# Altium integrated library Renesas Microprocessor SuperH.IntLib: 433 symbols (part 62 of 62)
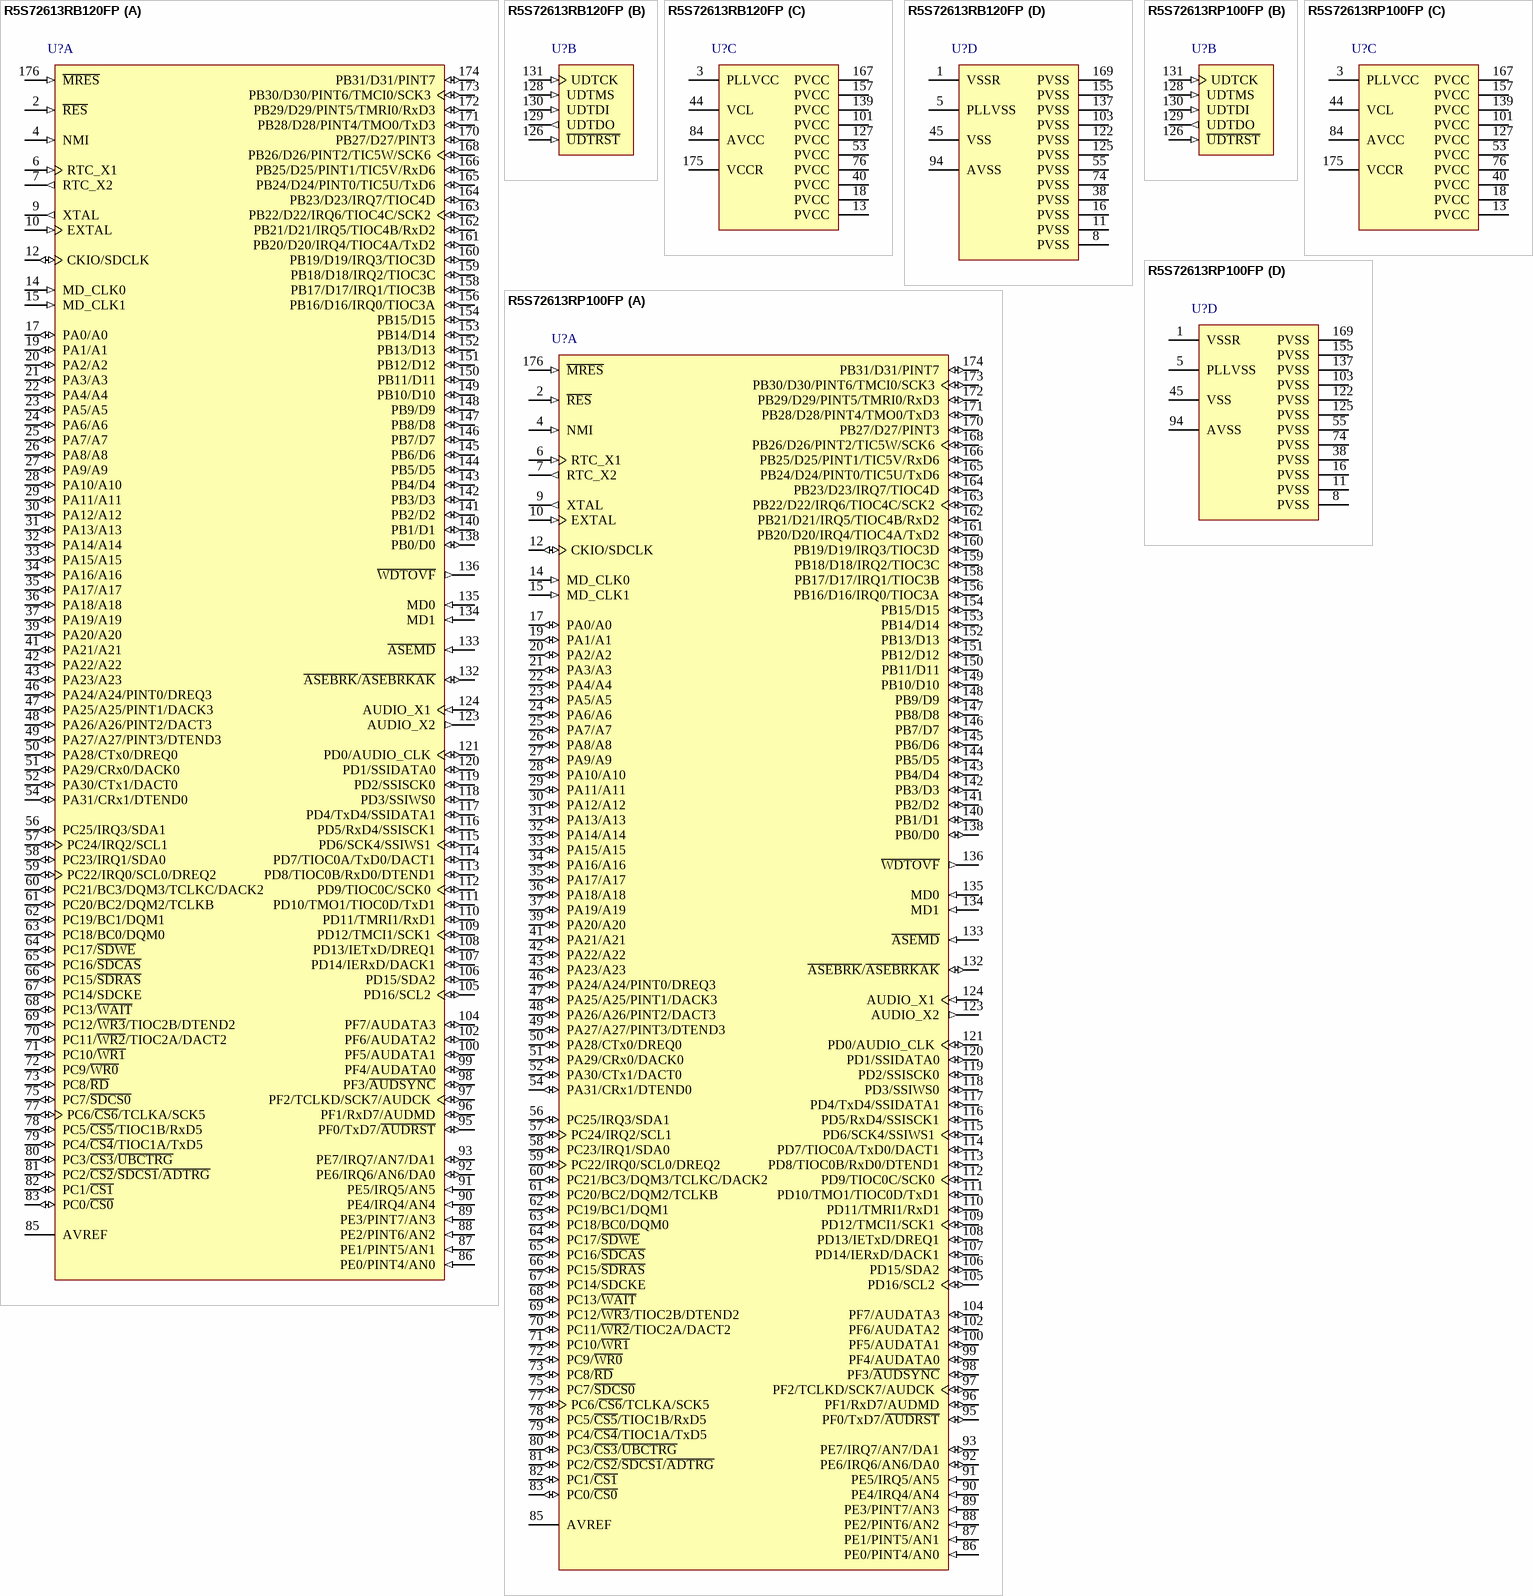
[diagram p416: symbols R5S72613RB120FP to R5S72613RP100FP]

## R5S72613RB120FP
designator U?
32-Bit RISC Microcomputer, SH7260 Series, SH-2A core, 120MHz, 32K RAM, 24x24mm 176-pin PLQFP, -40 to 85°C; Published: 28-Aug-2009; DatasheetVersion: Rev.2.00, Sep-2007; PackageVersion: Oct-2005; PackageReference: PLQP0176KB-A; Publisher: Altium Limited; PackageDescription: 176-Pin Plastic Low Profile QFP, 24 x 24 x 1.4 mm Body, 0.5 mm Pitch; Code_JEITA: P-LQFP176-24x24-0.50; ComponentLink1Description: Manufacturer Link; ComponentLink1URL: http://www.renesas.com/fmwk.jsp?cnt=sh7261_root.jsp&fp=/products/mpumcu/superh_family/sh7260_series/sh7261_group/; ComponentLink2Description: Datasheet; ComponentLink2URL: http://documentation.renesas.com/eng/products/mpumcu/rej09b0320_sh7261hm.pdf; ComponentLink3Description: Packaging Specification; ComponentLink3URL: http://sg.renesas.com/media/products/common_info/package/pdf/ic/code/plqp0176kb_a.pdf
footprint PLQP0176KB-A_N (Shrink QFP, 176-Leads, Body 24x24mm, Pitch 0.5mm, IPC Medium Density)
footprint PLQP0176KB-A_L (Shrink QFP, 176-Leads, Body 24x24mm, Pitch 0.5mm, IPC High Density)
footprint PLQP0176KB-A_M (Shrink QFP, 176-Leads, Body 24x24mm, Pitch 0.5mm, IPC Low Density)
part A pins: 2 ~{RES} (in), 4 NMI (in), 6 RTC_X1 (in), 7 RTC_X2 (out), 9 XTAL (out), 10 EXTAL (in), 12 CKIO/SDCLK (io), 14 MD_CLK0 (in), 15 MD_CLK1 (in), 17 PA0/A0 (io), 19 PA1/A1 (io), 20 PA2/A2 (io), 21 PA3/A3 (io), 22 PA4/A4 (io), 23 PA5/A5 (io), 24 PA6/A6 (io), 25 PA7/A7 (io), 26 PA8/A8 (io), 27 PA9/A9 (io), 28 PA10/A10 (io), 29 PA11/A11 (io), 30 PA12/A12 (io), 31 PA13/A13 (io), 32 PA14/A14 (io), 33 PA15/A15 (io), 34 PA16/A16 (io), 35 PA17/A17 (io), 36 PA18/A18 (io), 37 PA19/A19 (io), 39 PA20/A20 (io), 41 PA21/A21 (io), 42 PA22/A22 (io), 43 PA23/A23 (io), 46 PA24/A24/PINT0/DREQ3 (io), 47 PA25/A25/PINT1/DACK3 (io), 48 PA26/A26/PINT2/DACT3 (io), 49 PA27/A27/PINT3/DTEND3 (io), 50 PA28/CTx0/DREQ0 (io), 51 PA29/CRx0/DACK0 (io), 52 PA30/CTx1/DACT0 (io), 54 PA31/CRx1/DTEND0 (io), 56 PC25/IRQ3/SDA1 (io), 57 PC24/IRQ2/SCL1 (io), 58 PC23/IRQ1/SDA0 (io), 59 PC22/IRQ0/SCL0/DREQ2 (io), 60 PC21/BC3/DQM3/TCLKC/DACK2 (io), 61 PC20/BC2/DQM2/TCLKB (io), 62 PC19/BC1/DQM1 (io), 63 PC18/BC0/DQM0 (io), 64 PC17/~{SDWE} (io), 65 PC16/~{SDCAS} (io), 66 PC15/~{SDRAS} (io), 67 PC14/SDCKE (io), 68 PC13/~{WAIT} (io), 69 PC12/~{WR3}/TIOC2B/DTEND2 (io), 70 PC11/~{WR2}/TIOC2A/DACT2 (io), 71 PC10/~{WR1} (io), 72 PC9/~{WR0} (io), 73 PC8/~{RD} (io), 75 PC7/~{SDCS0} (io), 77 PC6/~{CS6}/TCLKA/SCK5 (io), 78 PC5/~{CS5}/TIOC1B/RxD5 (io), 79 PC4/~{CS4}/TIOC1A/TxD5 (io), 80 PC3/~{CS3}/~{UBCTRG} (io), 81 PC2/~{CS2}/~{SDCS1}/~{ADTRG} (io), 82 PC1/~{CS1} (io), 83 PC0/~{CS0} (io), 85 AVREF (power), 86 PE0/PINT4/AN0 (in), 87 PE1/PINT5/AN1 (in), 88 PE2/PINT6/AN2 (in), 89 PE3/PINT7/AN3 (in), 90 PE4/IRQ4/AN4 (in), 91 PE5/IRQ5/AN5 (in), 92 PE6/IRQ6/AN6/DA0 (io), 93 PE7/IRQ7/AN7/DA1 (io), 95 PF0/TxD7/~{AUDRST} (io), 96 PF1/RxD7/AUDMD (io), 97 PF2/TCLKD/SCK7/AUDCK (io), 98 PF3/~{AUDSYNC} (io), 99 PF4/AUDATA0 (io), 100 PF5/AUDATA1 (io), 102 PF6/AUDATA2 (io), 104 PF7/AUDATA3 (io), 105 PD16/SCL2 (io), 106 PD15/SDA2 (io), 107 PD14/IERxD/DACK1 (io), 108 PD13/IETxD/DREQ1 (io), 109 PD12/TMCI1/SCK1 (io), 110 PD11/TMRI1/RxD1 (io), 111 PD10/TMO1/TIOC0D/TxD1 (io), 112 PD9/TIOC0C/SCK0 (io), 113 PD8/TIOC0B/RxD0/DTEND1 (io), 114 PD7/TIOC0A/TxD0/DACT1 (io), 115 PD6/SCK4/SSIWS1 (io), 116 PD5/RxD4/SSISCK1 (io), 117 PD4/TxD4/SSIDATA1 (io), 118 PD3/SSIWS0 (io), 119 PD2/SSISCK0 (io), 120 PD1/SSIDATA0 (io), 121 PD0/AUDIO_CLK (io), 123 AUDIO_X2 (out), 124 AUDIO_X1 (in), 132 ~{ASEBRK}/~{ASEBRKAK} (io), 133 ~{ASEMD} (in), 134 MD1 (in), 135 MD0 (in), 136 ~{WDTOVF} (out), 138 PB0/D0 (io), 140 PB1/D1 (io), 141 PB2/D2 (io), 142 PB3/D3 (io), 143 PB4/D4 (io), 144 PB5/D5 (io), 145 PB6/D6 (io), 146 PB7/D7 (io), 147 PB8/D8 (io), 148 PB9/D9 (io), 149 PB10/D10 (io), 150 PB11/D11 (io), 151 PB12/D12 (io), 152 PB13/D13 (io), 153 PB14/D14 (io), 154 PB15/D15 (io), 156 PB16/D16/IRQ0/TIOC3A (io), 158 PB17/D17/IRQ1/TIOC3B (io), 159 PB18/D18/IRQ2/TIOC3C (io), 160 PB19/D19/IRQ3/TIOC3D (io), 161 PB20/D20/IRQ4/TIOC4A/TxD2 (io), 162 PB21/D21/IRQ5/TIOC4B/RxD2 (io), 163 PB22/D22/IRQ6/TIOC4C/SCK2 (io), 164 PB23/D23/IRQ7/TIOC4D (io), 165 PB24/D24/PINT0/TIC5U/TxD6 (io), 166 PB25/D25/PINT1/TIC5V/RxD6 (io), 168 PB26/D26/PINT2/TIC5W/SCK6 (io), 170 PB27/D27/PINT3 (io), 171 PB28/D28/PINT4/TMO0/TxD3 (io), 172 PB29/D29/PINT5/TMRI0/RxD3 (io), 173 PB30/D30/PINT6/TMCI0/SCK3 (io), 174 PB31/D31/PINT7 (io), 176 ~{MRES} (in)
part B pins: 126 ~{UDTRST} (in), 128 UDTMS (in), 129 UDTDO (out), 130 UDTDI (in), 131 UDTCK (in)
part C pins: 3 PLLVCC (power), 13 PVCC (power), 18 PVCC (power), 40 PVCC (power), 44 VCL (power), 53 PVCC (power), 76 PVCC (power), 84 AVCC (power), 101 PVCC (power), 127 PVCC (power), 139 PVCC (power), 157 PVCC (power), 167 PVCC (power), 175 VCCR (power)
part D pins: 1 VSSR (power), 5 PLLVSS (power), 8 PVSS (power), 11 PVSS (power), 16 PVSS (power), 38 PVSS (power), 45 VSS (power), 55 PVSS (power), 74 PVSS (power), 94 AVSS (power), 103 PVSS (power), 122 PVSS (power), 125 PVSS (power), 137 PVSS (power), 155 PVSS (power), 169 PVSS (power)

## R5S72613RP100FP
designator U?
32-Bit RISC Microcomputer, SH7260 Series, SH-2A core, 100MHz, 32K RAM, 24x24mm 176-pin PLQFP, -40 to 85°C; Published: 28-Aug-2009; DatasheetVersion: Rev.2.00, Sep-2007; PackageVersion: Oct-2005; PackageReference: PLQP0176KB-A; Publisher: Altium Limited; PackageDescription: 176-Pin Plastic Low Profile QFP, 24 x 24 x 1.4 mm Body, 0.5 mm Pitch; Code_JEITA: P-LQFP176-24x24-0.50; ComponentLink1Description: Manufacturer Link; ComponentLink1URL: http://www.renesas.com/fmwk.jsp?cnt=sh7261_root.jsp&fp=/products/mpumcu/superh_family/sh7260_series/sh7261_group/; ComponentLink2Description: Datasheet; ComponentLink2URL: http://documentation.renesas.com/eng/products/mpumcu/rej09b0320_sh7261hm.pdf; ComponentLink3Description: Packaging Specification; ComponentLink3URL: http://sg.renesas.com/media/products/common_info/package/pdf/ic/code/plqp0176kb_a.pdf
footprint PLQP0176KB-A_N (Shrink QFP, 176-Leads, Body 24x24mm, Pitch 0.5mm, IPC Medium Density)
footprint PLQP0176KB-A_L (Shrink QFP, 176-Leads, Body 24x24mm, Pitch 0.5mm, IPC High Density)
footprint PLQP0176KB-A_M (Shrink QFP, 176-Leads, Body 24x24mm, Pitch 0.5mm, IPC Low Density)
part A pins: 2 ~{RES} (in), 4 NMI (in), 6 RTC_X1 (in), 7 RTC_X2 (out), 9 XTAL (out), 10 EXTAL (in), 12 CKIO/SDCLK (io), 14 MD_CLK0 (in), 15 MD_CLK1 (in), 17 PA0/A0 (io), 19 PA1/A1 (io), 20 PA2/A2 (io), 21 PA3/A3 (io), 22 PA4/A4 (io), 23 PA5/A5 (io), 24 PA6/A6 (io), 25 PA7/A7 (io), 26 PA8/A8 (io), 27 PA9/A9 (io), 28 PA10/A10 (io), 29 PA11/A11 (io), 30 PA12/A12 (io), 31 PA13/A13 (io), 32 PA14/A14 (io), 33 PA15/A15 (io), 34 PA16/A16 (io), 35 PA17/A17 (io), 36 PA18/A18 (io), 37 PA19/A19 (io), 39 PA20/A20 (io), 41 PA21/A21 (io), 42 PA22/A22 (io), 43 PA23/A23 (io), 46 PA24/A24/PINT0/DREQ3 (io), 47 PA25/A25/PINT1/DACK3 (io), 48 PA26/A26/PINT2/DACT3 (io), 49 PA27/A27/PINT3/DTEND3 (io), 50 PA28/CTx0/DREQ0 (io), 51 PA29/CRx0/DACK0 (io), 52 PA30/CTx1/DACT0 (io), 54 PA31/CRx1/DTEND0 (io), 56 PC25/IRQ3/SDA1 (io), 57 PC24/IRQ2/SCL1 (io), 58 PC23/IRQ1/SDA0 (io), 59 PC22/IRQ0/SCL0/DREQ2 (io), 60 PC21/BC3/DQM3/TCLKC/DACK2 (io), 61 PC20/BC2/DQM2/TCLKB (io), 62 PC19/BC1/DQM1 (io), 63 PC18/BC0/DQM0 (io), 64 PC17/~{SDWE} (io), 65 PC16/~{SDCAS} (io), 66 PC15/~{SDRAS} (io), 67 PC14/SDCKE (io), 68 PC13/~{WAIT} (io), 69 PC12/~{WR3}/TIOC2B/DTEND2 (io), 70 PC11/~{WR2}/TIOC2A/DACT2 (io), 71 PC10/~{WR1} (io), 72 PC9/~{WR0} (io), 73 PC8/~{RD} (io), 75 PC7/~{SDCS0} (io), 77 PC6/~{CS6}/TCLKA/SCK5 (io), 78 PC5/~{CS5}/TIOC1B/RxD5 (io), 79 PC4/~{CS4}/TIOC1A/TxD5 (io), 80 PC3/~{CS3}/~{UBCTRG} (io), 81 PC2/~{CS2}/~{SDCS1}/~{ADTRG} (io), 82 PC1/~{CS1} (io), 83 PC0/~{CS0} (io), 85 AVREF (power), 86 PE0/PINT4/AN0 (in), 87 PE1/PINT5/AN1 (in), 88 PE2/PINT6/AN2 (in), 89 PE3/PINT7/AN3 (in), 90 PE4/IRQ4/AN4 (in), 91 PE5/IRQ5/AN5 (in), 92 PE6/IRQ6/AN6/DA0 (io), 93 PE7/IRQ7/AN7/DA1 (io), 95 PF0/TxD7/~{AUDRST} (io), 96 PF1/RxD7/AUDMD (io), 97 PF2/TCLKD/SCK7/AUDCK (io), 98 PF3/~{AUDSYNC} (io), 99 PF4/AUDATA0 (io), 100 PF5/AUDATA1 (io), 102 PF6/AUDATA2 (io), 104 PF7/AUDATA3 (io), 105 PD16/SCL2 (io), 106 PD15/SDA2 (io), 107 PD14/IERxD/DACK1 (io), 108 PD13/IETxD/DREQ1 (io), 109 PD12/TMCI1/SCK1 (io), 110 PD11/TMRI1/RxD1 (io), 111 PD10/TMO1/TIOC0D/TxD1 (io), 112 PD9/TIOC0C/SCK0 (io), 113 PD8/TIOC0B/RxD0/DTEND1 (io), 114 PD7/TIOC0A/TxD0/DACT1 (io), 115 PD6/SCK4/SSIWS1 (io), 116 PD5/RxD4/SSISCK1 (io), 117 PD4/TxD4/SSIDATA1 (io), 118 PD3/SSIWS0 (io), 119 PD2/SSISCK0 (io), 120 PD1/SSIDATA0 (io), 121 PD0/AUDIO_CLK (io), 123 AUDIO_X2 (out), 124 AUDIO_X1 (in), 132 ~{ASEBRK}/~{ASEBRKAK} (io), 133 ~{ASEMD} (in), 134 MD1 (in), 135 MD0 (in), 136 ~{WDTOVF} (out), 138 PB0/D0 (io), 140 PB1/D1 (io), 141 PB2/D2 (io), 142 PB3/D3 (io), 143 PB4/D4 (io), 144 PB5/D5 (io), 145 PB6/D6 (io), 146 PB7/D7 (io), 147 PB8/D8 (io), 148 PB9/D9 (io), 149 PB10/D10 (io), 150 PB11/D11 (io), 151 PB12/D12 (io), 152 PB13/D13 (io), 153 PB14/D14 (io), 154 PB15/D15 (io), 156 PB16/D16/IRQ0/TIOC3A (io), 158 PB17/D17/IRQ1/TIOC3B (io), 159 PB18/D18/IRQ2/TIOC3C (io), 160 PB19/D19/IRQ3/TIOC3D (io), 161 PB20/D20/IRQ4/TIOC4A/TxD2 (io), 162 PB21/D21/IRQ5/TIOC4B/RxD2 (io), 163 PB22/D22/IRQ6/TIOC4C/SCK2 (io), 164 PB23/D23/IRQ7/TIOC4D (io), 165 PB24/D24/PINT0/TIC5U/TxD6 (io), 166 PB25/D25/PINT1/TIC5V/RxD6 (io), 168 PB26/D26/PINT2/TIC5W/SCK6 (io), 170 PB27/D27/PINT3 (io), 171 PB28/D28/PINT4/TMO0/TxD3 (io), 172 PB29/D29/PINT5/TMRI0/RxD3 (io), 173 PB30/D30/PINT6/TMCI0/SCK3 (io), 174 PB31/D31/PINT7 (io), 176 ~{MRES} (in)
part B pins: 126 ~{UDTRST} (in), 128 UDTMS (in), 129 UDTDO (out), 130 UDTDI (in), 131 UDTCK (in)
part C pins: 3 PLLVCC (power), 13 PVCC (power), 18 PVCC (power), 40 PVCC (power), 44 VCL (power), 53 PVCC (power), 76 PVCC (power), 84 AVCC (power), 101 PVCC (power), 127 PVCC (power), 139 PVCC (power), 157 PVCC (power), 167 PVCC (power), 175 VCCR (power)
part D pins: 1 VSSR (power), 5 PLLVSS (power), 8 PVSS (power), 11 PVSS (power), 16 PVSS (power), 38 PVSS (power), 45 VSS (power), 55 PVSS (power), 74 PVSS (power), 94 AVSS (power), 103 PVSS (power), 122 PVSS (power), 125 PVSS (power), 137 PVSS (power), 155 PVSS (power), 169 PVSS (power)

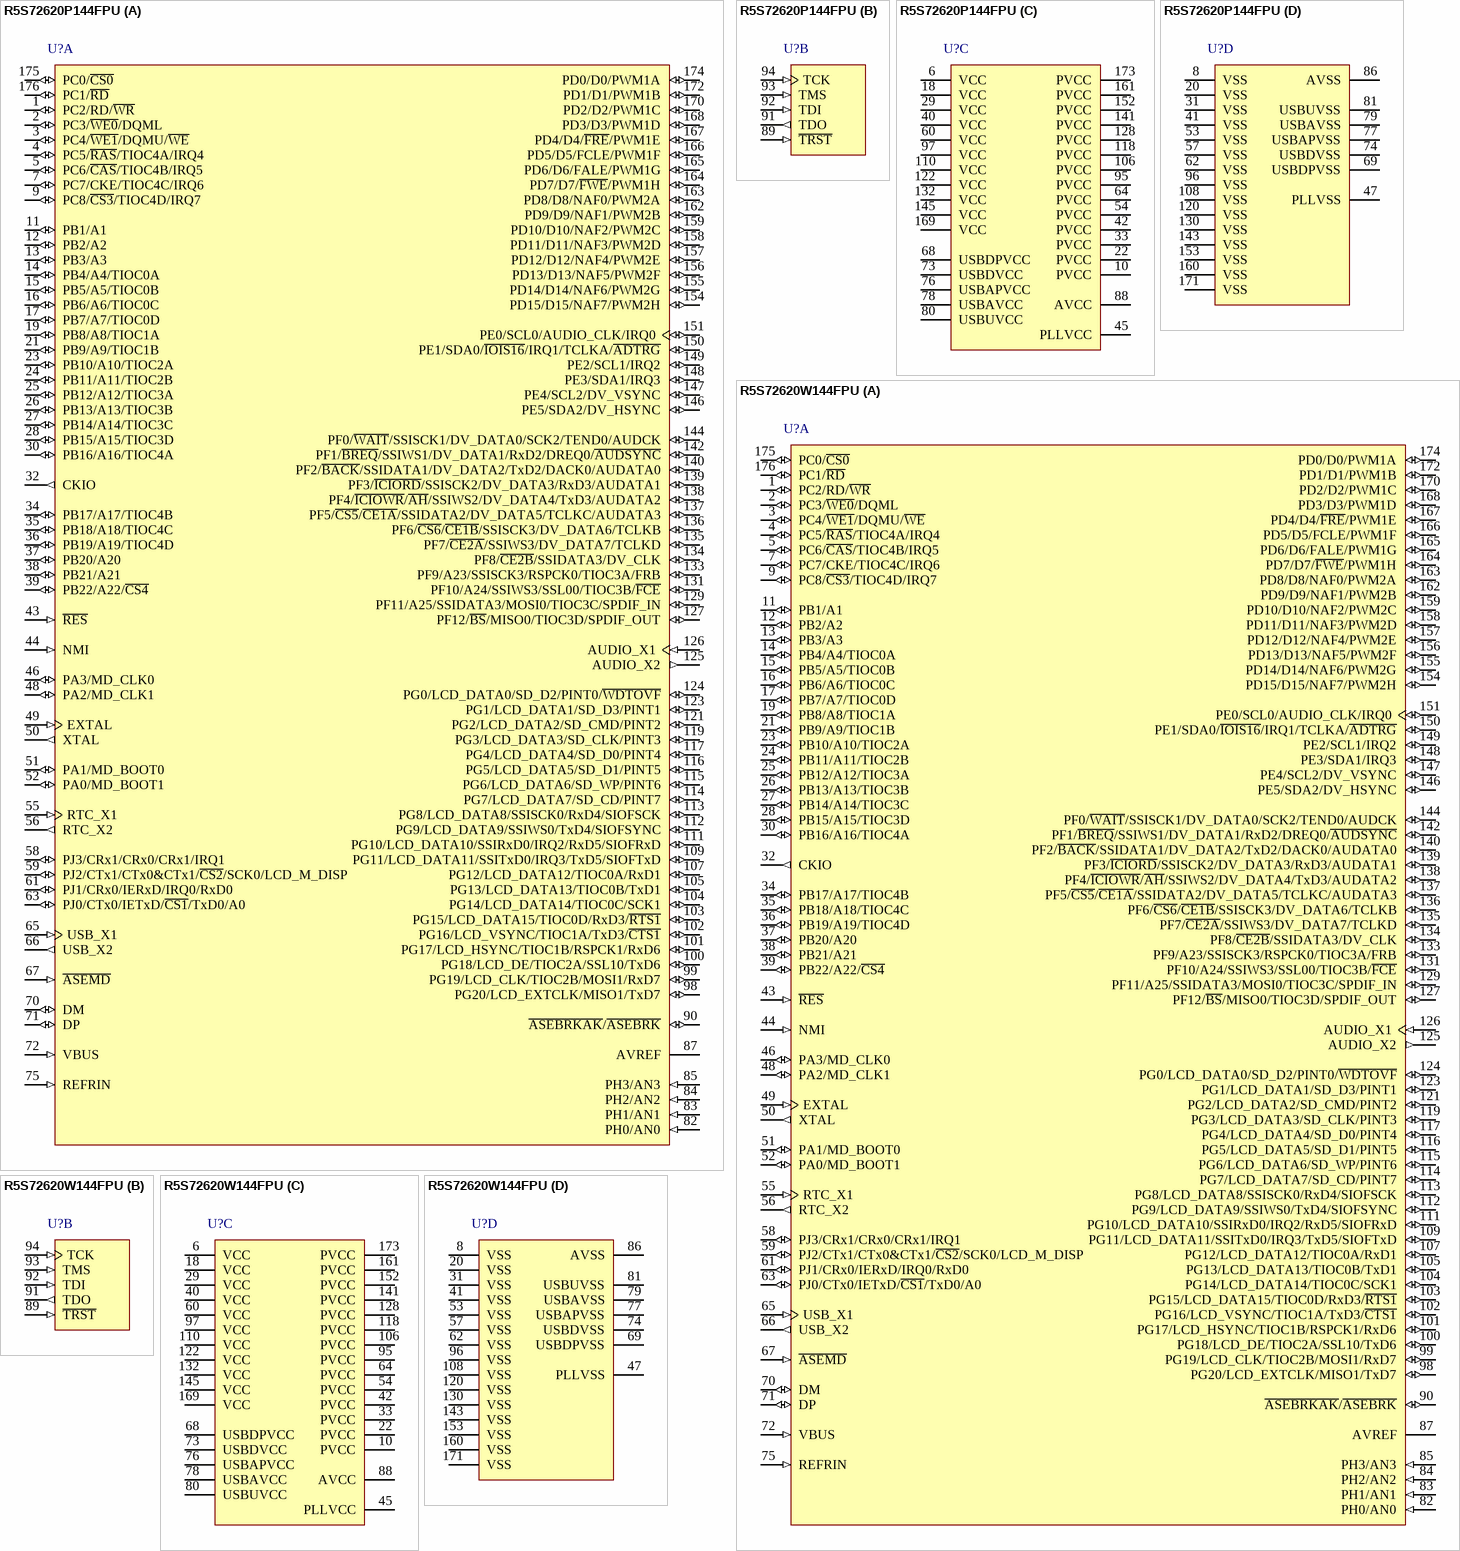
[diagram p210: symbols R5S72620P144FPU to R5S72620W144FPU]